# Altium footprint library BioZ.PcbLib: 26 footprints (part 2 of 2)
Each footprint in its own frame and in the unit in brackets; x right, y up, seen from the top. Pads: shape width x height; smd on the part's side, far side on the other; paste and mask are expansions set on the pad; w line width, h text height; cw(c..) or ccw(c..) is an arc to the next point about the centre after c.
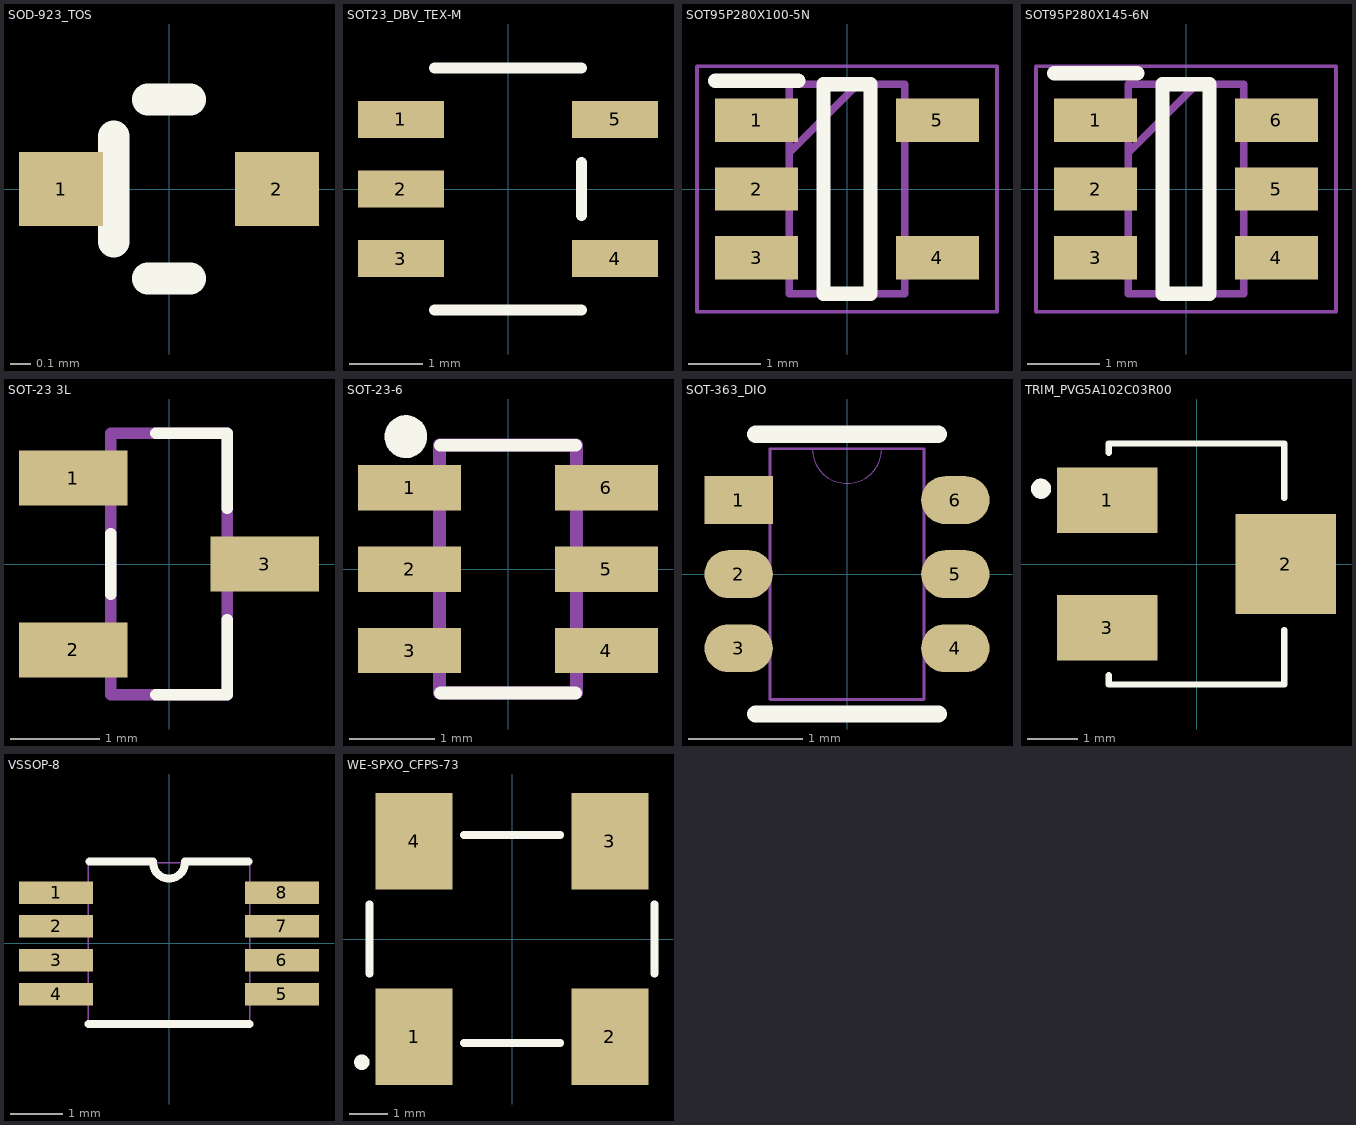
[diagram p1: the footprints below, top view; thin cyan lines are the x and y axes]

## SOD-923_TOS [mil]
pads (2):
  rect 16x14 smd paste+0 mask+0: 1(-20.5,0) 2(20.5,0)
Top Overlay:
  lines w6: -10.5,-10 -10.5,10.04 ; -4.04,-17 4.04,-17 ; -4.04,17 4.04,17
3D body "SOD-923-ZKN_r.stp": height 15.75, standoff 0, extent -19.68,-11.81 19.68,11.81

## SOT23_DBV_TEX-M [mil]
pads (5):
  rect 46.15x20 smd paste+0 mask+0: 1(-57.58,37.4) 2(-57.58,0) 3(-57.58,-37.4) 4(57.58,-37.4) 5(57.58,37.4)
Top Overlay:
  lines w6: -39.5,-65 39.5,-65 ; -39.5,65 39.5,65 ; 39.5,-14.3 39.5,14.3
3D body "DBV0005A.stp": height 47.24, standoff 0, extent -55.12,-57.09 55.12,57.09

## SOT95P280X100-5N [mm]
pads (5):
  rect 1.15x0.6 smd: 1(-1.25,0.95) 2(-1.25,0) 3(-1.25,-0.95) 4(1.25,-0.95) 5(1.25,0.95)
Top Overlay:
  lines w0.2: -1.825,1.5 -0.675,1.5 ; -0.325,-1.45 0.325,-1.45 0.325,1.45 -0.325,1.45 -0.325,-1.45
Mechanical 15:
  lines w0.1: -0.8,0.5 0.15,1.45 ; -0.8,-1.45 0.8,-1.45 0.8,1.45 -0.8,1.45 -0.8,-1.45
Mechanical 20:
  lines w0.05: -2.075,-1.7 2.075,-1.7 2.075,1.7 -2.075,1.7 -2.075,-1.7
3D body "ADP121-AUJZ15R7.stp": height 1, standoff 0, extent -1.4,-1.45 1.4,1.45

## SOT95P280X145-6N [mm]
pads (6):
  rect 1.15x0.6 smd: 1(-1.25,0.95) 2(-1.25,0) 3(-1.25,-0.95) 4(1.25,-0.95) 5(1.25,0) 6(1.25,0.95)
Top Overlay:
  lines w0.2: -1.825,1.6 -0.675,1.6 ; -0.325,-1.45 -0.325,1.45 0.325,1.45 0.325,-1.45 -0.325,-1.45
Mechanical 15:
  lines w0.1: -0.8,0.5 0.15,1.45 ; -0.8,-1.45 -0.8,1.45 0.8,1.45 0.8,-1.45 -0.8,-1.45
Mechanical 20:
  lines w0.05: -2.075,-1.7 -2.075,1.7 2.075,1.7 2.075,-1.7 -2.075,-1.7
3D body "DBV0006A.stp": height 1.2, standoff 0, extent -1.4,-1.45 1.4,1.45

## SOT-23 3L [mm]
height 1.22
pads (3):
  rect 1.21x0.61 smd: 1(-1.07,0.96) 2(-1.07,-0.96) 3(1.07,0)
Top Overlay:
  lines w0.127: -0.65,-0.34 -0.65,0.34 ; -0.15,-1.46 0.65,-1.46 0.65,-0.62 ; -0.15,1.46 0.65,1.46 0.65,0.62
Mechanical 13:
  lines w0.127: -0.65,-1.46 0.65,-1.46 0.65,1.46 -0.65,1.46 -0.65,-1.46
3D body "step_temp.STEP": height 1.22, standoff 0, extent -1.185,-1.46 1.185,1.46

## SOT-23-6 [mm]
pads (6):
  rect 1.205x0.53 smd paste+0 mask+0: 1(-1.15,0.95) 2(-1.15,0) 3(-1.15,-0.95) 4(1.15,-0.95) 5(1.15,0) 6(1.15,0.95)
Top Overlay:
  circle w0.25: c-1.194,1.549 r0.125
  lines w0.15: -0.787,-1.448 0.787,-1.448 ; -0.787,1.448 0.787,1.448
Mechanical 13:
  lines w0.15: -0.8,-1.448 0.8,-1.448 0.8,1.45 -0.8,1.45 -0.8,-1.448
3D body "DBV0006A.stp": height 1.2, standoff 0, extent -1.4,-1.45 1.4,1.45

## SOT-363_DIO [mm]
pads (6):
  rect 0.6x0.42 smd paste+0 mask+0: 1(-0.95,0.65)
  oval 0.6x0.42 smd paste+0 mask+0: 2(-0.95,0) 3(-0.95,-0.65) 4(0.95,-0.65) 5(0.95,0) 6(0.95,0.65)
Top Overlay:
  lines w0.152: -0.802,-1.227 0.802,-1.227 ; -0.802,1.227 0.802,1.227
Mechanical 13:
  lines w0: -0.305,1.1 ccw(c0,1.1) 0.305,1.1
  lines w0.025: -0.675,-1.1 -0.675,1.1 0.675,1.1 0.675,-1.1 -0.675,-1.1
3D body "SOT-363_DIO.step": height 1, standoff 0, extent -0.9,-1.1 0.9,1.1

## TRIM_PVG5A102C03R00 [mm]
height 5.3
pads (3):
  rect 2x1.3 smd: 1(-1.778,1.27) 3(-1.778,-1.27)
  rect 2x2 smd: 2(1.778,0)
Top Overlay:
  circle w0.2: c-3.1,1.5 r0.1
  lines w0.127: -1.75,-2.215 -1.75,-2.4 1.75,-2.4 1.75,-1.315 ; -1.75,2.215 -1.75,2.4 1.75,2.4 1.75,1.315
Mechanical 13:
  circle w0.2: c-3.1,1.5 r0.1
3D body "PVG5A102C03R00.STEP": height 5.3, standoff 0, extent -1.95,-2.4 1.95,2.4

## VSSOP-8 [mil]
pads (8):
  rect 56x17 smd paste-28 mask-28: 1(-85.5,38.39) 2(-85.5,12.8) 3(-85.5,-12.8) 4(-85.5,-38.39) 5(85.5,-38.39) 6(85.5,-12.8) 7(85.5,12.8) 8(85.5,38.39)
Top Overlay:
  lines w6: -61,-61 61,-61 ; -60,62 -12,62 ; -12,61 ccw(c0,61) 12,61 ; 12,62 60,62
Mechanical 13:
  lines w1: -12,61 ccw(c0,61) 12,61 ; -99.5,-45.89 -61,-45.89 -61,-30.89 -99.5,-30.89 -99.5,-45.89 ; -99.5,-20.3 -61,-20.3 -61,-5.3 -99.5,-5.3 -99.5,-20.3 ; -99.5,5.3 -61,5.3 -61,20.3 -99.5,20.3 -99.5,5.3 ; -99.5,30.89 -61,30.89 -61,45.89 -99.5,45.89 -99.5,30.89 ; -61,-61 -61,61 61,61 61,-61 -61,-61 ; 61,-45.89 99.5,-45.89 99.5,-30.89 61,-30.89 61,-45.89 ; 61,-20.3 99.5,-20.3 99.5,-5.3 61,-5.3 61,-20.3 ; 61,5.3 99.5,5.3 99.5,20.3 61,20.3 61,5.3 ; 61,30.89 99.5,30.89 99.5,45.89 61,45.89 61,30.89
3D body "DGK8.step": height 43.11, standoff 0, extent -99.49,-60.98 99.49,60.98

## WE-SPXO_CFPS-73 [mm]
pads (4):
  rect 2x2.5 smd paste+0.017 mask+0.102: 1(-2.54,-2.54)
  rect 2x2.5 smd paste+0 mask+0.102: 2(2.54,-2.54) 3(2.54,2.54) 4(-2.54,2.54)
Top Overlay:
  circle w0.2: c-3.9,-3.2 r0.1
  lines w0.2: -3.7,-0.9 -3.7,0.9 ; -1.25,-2.7 1.25,-2.7 ; -1.25,2.7 1.25,2.7 ; 3.7,-0.9 3.7,0.9
3D body "Download_STP_831018043+%28rev1%29.stp": height 1.35, standoff 0, extent -3.6,-2.62 3.6,2.58